# EAGLE library part AT25SF321 (library lib-works)
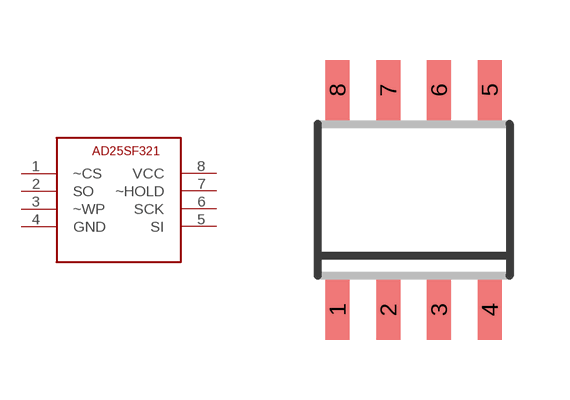
[diagram p1: symbol with the pads of SOIC8; footprint SOIC8]

Designator prefix -

## AT25SF321  [SOIC8]
1  ~CS
2  SO
3  ~WP
4  GND
5  SI
6  SCK
7  ~HOLD
8  VCC

## Footprint SOIC8 (pad centres in mm)
SOIC-8 CASE 751-07 Source: http://www.onsemi.com/pub/Collateral/MC34164-D.PDF D (R-PDSO-G8)PLATIC SMALL-OUTLINE PACKAGE Source: http://focus.ti.com/lit/ds/symlink/tlc27l2.pdf
smd 0.6 x 1.5: 1 -1.905,-2.75; 2 -0.635,-2.75; 3 0.635,-2.75; 4 1.905,-2.75; 5 1.905,2.75; 6 0.635,2.75; 7 -0.635,2.75; 8 -1.905,2.75